# Altium schematic symbol library GRM033R71C103KE14D.SchLib: 1 symbol
Pins are listed as number, name and electrical type; pins without a type are passive.

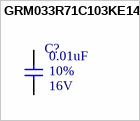
[diagram p0: symbol GRM033R71C103KE14D]

## GRM033R71C103KE14D
designator C?  Rated Voltage: 16V  Tolerance: 10%  Capacitence: 0.01uF  (hidden comment: GRM033R71C103KE14D)
Multilayer Ceramic Capacitors MLCC - SMD/SMT .01UF 16V 10% 0201; MFR: Murata Electronics; Temperature Coefficient: X7R; PN: GRM033R71C103KE14D; ComponentLink1Description: Datasheet; ComponentLink1URL: http://www.farnell.com/datasheets/2867848.pdf?src-supplier=Farnell; Package: 0201; Footprint: C0201; Supplier 1: Mouser; Supplier Part Number 1: 81-GRM033R71C103KE4D
footprint C0201
pins: 1, 2